# EAGLE library part 74HC4067 (library Bauteile)
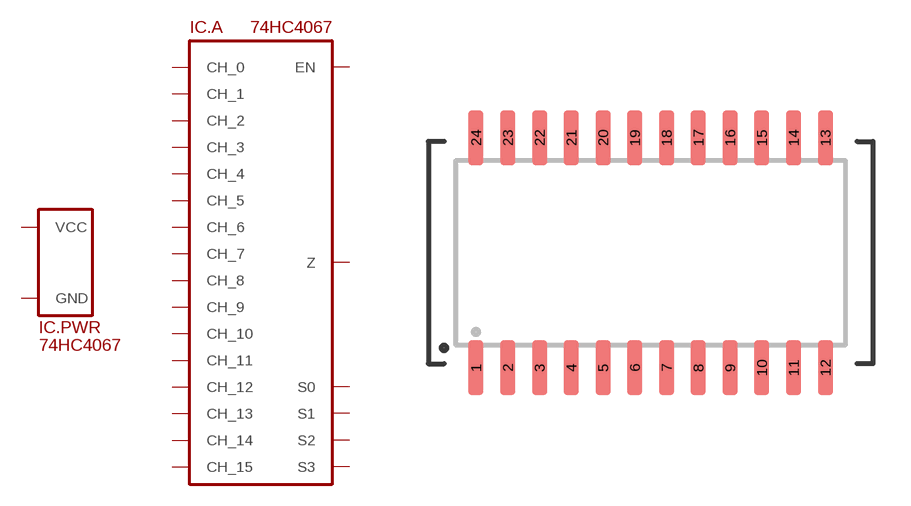
[diagram p7: symbol with the pads of SO24; footprint SO24]

Designator prefix IC; gates .PWR=SUPPLY_VCC/GND .A=74HC4067

## 74HC4067(SO24)  [SO24]
1  .A:Z
2  .A:CH_7
3  .A:CH_6
4  .A:CH_5
5  .A:CH_4
6  .A:CH_3
7  .A:CH_2
8  .A:CH_1
9  .A:CH_0
10  .A:S0
11  .A:S1
12  .PWR:GND
13  .A:S3
14  .A:S2
15  .A:EN
16  .A:CH_15
17  .A:CH_14
18  .A:CH_13
19  .A:CH_12
20  .A:CH_11
21  .A:CH_10
22  .A:CH_9
23  .A:CH_8
24  .PWR:VCC

## Footprint SO24 (pad centres in mm)
smd 0.6 x 2.2: 1 -6.985,-4.6; 2 -5.715,-4.6; 3 -4.445,-4.6; 4 -3.175,-4.6; 5 -1.905,-4.6; 6 -0.635,-4.6; 7 0.635,-4.6; 8 1.905,-4.6; 9 3.175,-4.6; 10 4.445,-4.6; 11 5.715,-4.6; 12 6.985,-4.6; 13 6.985,4.6; 14 5.715,4.6; 15 4.445,4.6; 16 3.175,4.6; 17 1.905,4.6; 18 0.635,4.6; 19 -0.635,4.6; 20 -1.905,4.6; 21 -3.175,4.6; 22 -4.445,4.6; 23 -5.715,4.6; 24 -6.985,4.6